# Altium footprint library Kayan22v1.PcbLib: 1 footprints
Each footprint in its own frame and in the unit in brackets; x right, y up, seen from the top. Pads: shape width x height; smd on the part's side, far side on the other; paste and mask are expansions set on the pad; w line width, h text height; cw(c..) or ccw(c..) is an arc to the next point about the centre after c.

## KUSBX-SMT-CS2-B30TR [mm] "USB TYPE C, SMT PINS, TH SHIELD"
height 3.15